# EAGLE library part UX60SC-MB-5ST(80) (library BeagleBone_Blue)
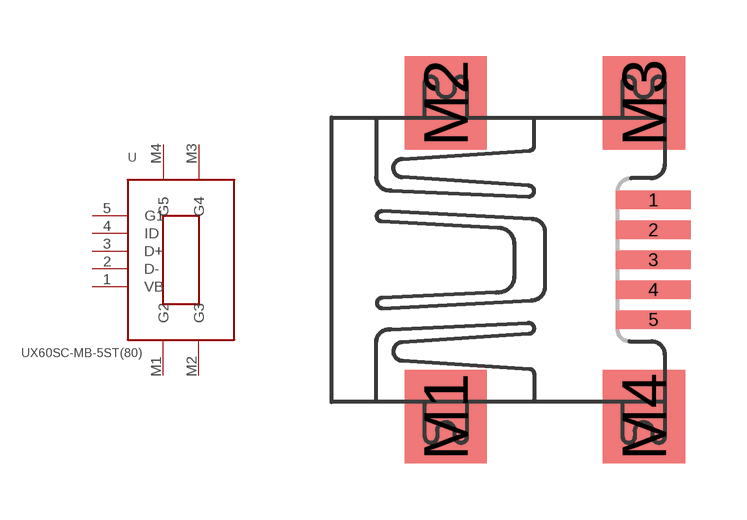
[diagram p4: symbol with the pads of UX60SC-MB-5ST(80); footprint UX60SC-MB-5ST(80)]

Designator prefix -

## UX60SC-MB-5ST(80)  [UX60SC-MB-5ST(80)]
1  VB
2  D-
3  D+
4  ID
5  G1
M1  G2
M2  G3
M3  G4
M4  G5

## Footprint UX60SC-MB-5ST(80) (pad centres in mm)
smd 2 x 0.5: 1 -11.72,4.14; 2 -11.72,3.34; 3 -11.72,2.54; 4 -11.72,1.74; 5 -11.72,0.94
smd 2.2 x 2.5: M1 -17.27,-1.66; M2 -17.27,6.74; M3 -11.97,6.74; M4 -11.97,-1.66